# Altium schematic symbol library kmilo17pet-TI_LDO_400_7500.SchLib: 1409 symbols (part 16 of 60)
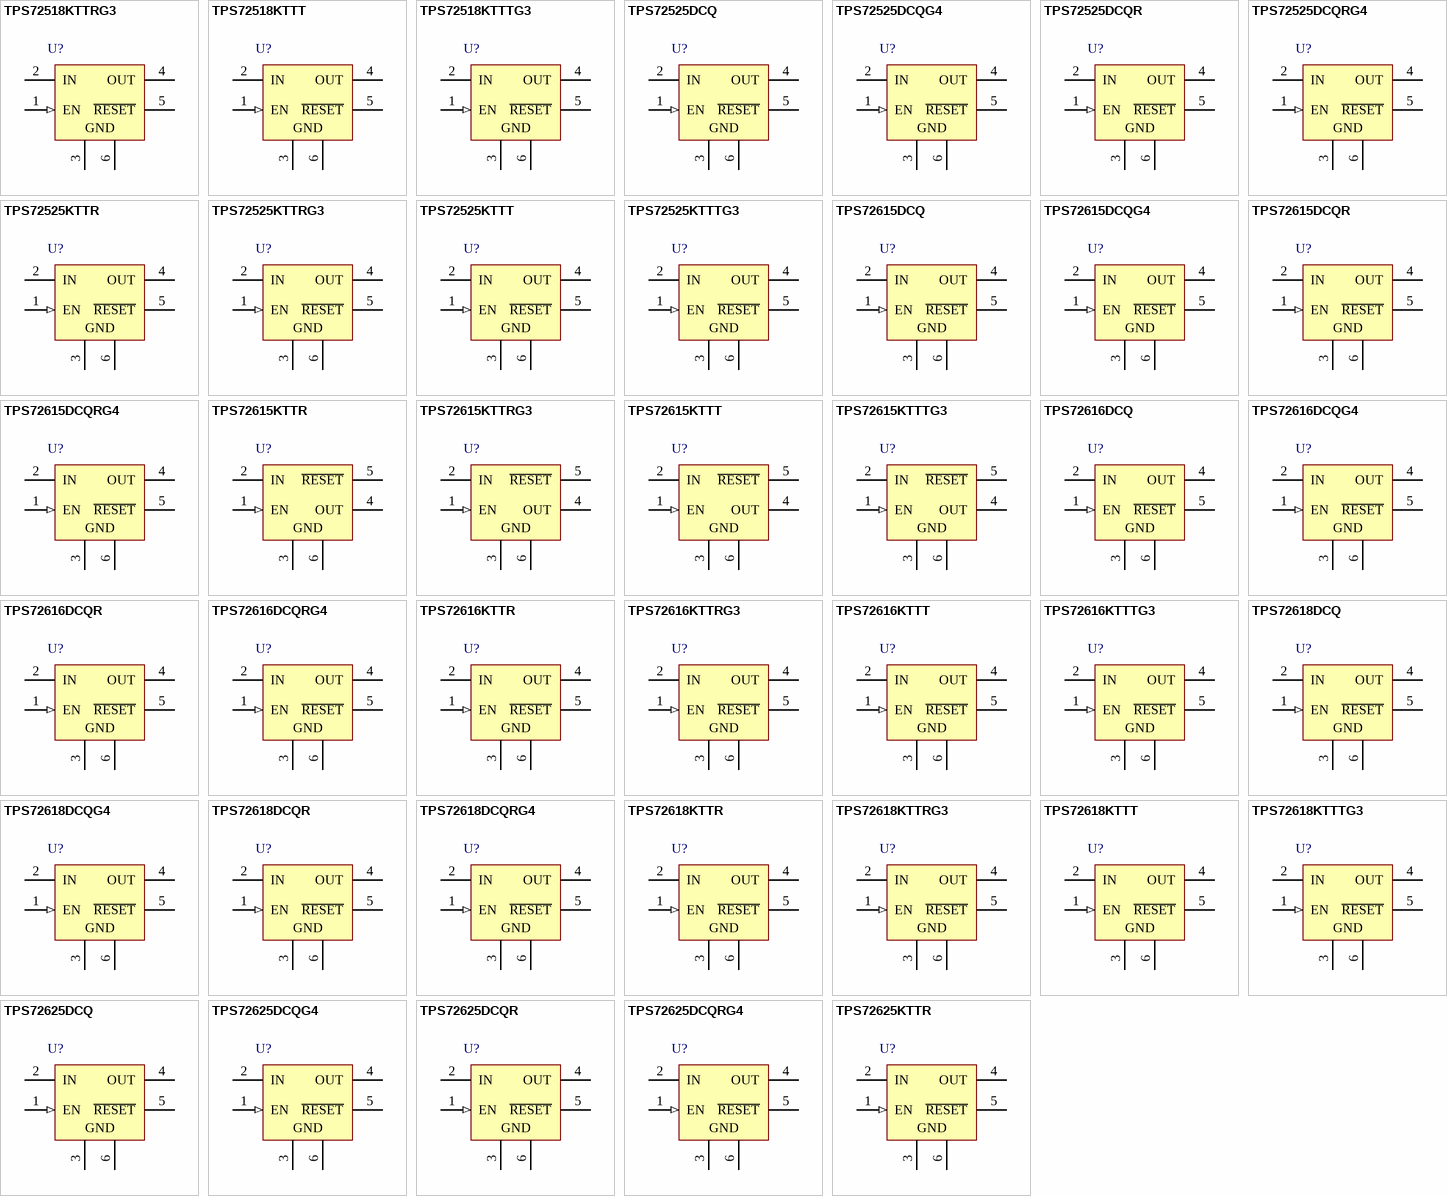
[diagram p65: symbols TPS72518KTTRG3 to TPS72625KTTR]

## TPS72615KTTRG3
designator U?
Single Output Any Cap LDO, 1 A, Fixed 1.5 V Output, 1.8 to 6 V Input, with Integrated SVS, 5-pin DDPAK (KTT), -40 to 125 degC, Green (RoHS & no Sb/Br); Manufacturer: Texas Instruments; PartNumber: TPS72615KTTRG3; Accuracy(%): 2; Fixed Output Options(V): 1.5; Iout(Max)(A): 1; Iq(Typ)(mA): 0.07; SubFamily: Single Channel LDO; Vdo(Typ)(mV): 200; Vin(Max)(V): 6; Vin(Min)(V): 1.8; DatasheetVersion: SLVS403H; PackageVersion: 4200577-3/F; PackageReference: KTT5; PackageDescription: 3-Pin Plastic Flange Mount, Body 10.16 x 10.34 mm, Pitch 1.7 mm; Supplier 1: Digi-Key; Supplier Part Number 1: TPS72615KTTRG3-ND; Supplier 2: Newark; Supplier Part Number 2: 73K9616; Supplier 3: Mouser; Supplier Part Number 3: 595-TPS72615KTTRG3; Eco-Plan: Green (RoHS & no Sb/Br); Vout Adj(Max)(V): 1.5; Vout Adj(Min)(V): 1.5; Mounting Technology: Surface Mount; Code_JEDEC: TO-263; ComponentLink1Description: Manufacturer URL; ComponentLink1URL: http://www.ti.com/; ComponentLink2Description: Datasheet; ComponentLink2URL: http://www.ti.com/general/docs/lit/getliterature.tsp?genericPartNumber=TPS72615&fileType=pdf; ComponentLink3Description: Package Specification; ComponentLink3URL: http://www.ti.com/litv/pdf/mpsf007e
footprint TI-KTT5_N (DPAK, 5-Leads, Body 10.16x8.925mm, Pitch 1.7mm, IPC Medium Density)
footprint TI-KTT5_L (DPAK, 5-Leads, Body 10.16x8.925mm, Pitch 1.7mm, IPC High Density)
footprint TI-KTT5_M (DPAK, 5-Leads, Body 10.16x8.925mm, Pitch 1.7mm, IPC Low Density)
pins: 1 EN (in) "Enable input", 2 IN (power) "Input supply voltage", 3 GND (power) "Ground", 4 OUT (power) "Regulated output voltage", 5 ~{RESET} (oc) "This terminal is the R\E\S\E\T\ output. When used with a pull-up resistor, this open-drain output provides the active low R\E\S\E\T\ signal when the regulator output voltage drops more than 5% below its nominal output (See Datasheet)", 6 GND (power) "Ground"

## TPS72615KTTT
designator U?
Single Output Any Cap LDO, 1 A, Fixed 1.5 V Output, 1.8 to 6 V Input, with Integrated SVS, 5-pin DDPAK (KTT), -40 to 125 degC, Green (RoHS & no Sb/Br); Manufacturer: Texas Instruments; PartNumber: TPS72615KTTT; Accuracy(%): 2; Fixed Output Options(V): 1.5; Iout(Max)(A): 1; Iq(Typ)(mA): 0.07; SubFamily: Single Channel LDO; Vdo(Typ)(mV): 200; Vin(Max)(V): 6; Vin(Min)(V): 1.8; DatasheetVersion: SLVS403H; PackageVersion: 4200577-3/F; PackageReference: KTT5; PackageDescription: 3-Pin Plastic Flange Mount, Body 10.16 x 10.34 mm, Pitch 1.7 mm; Supplier 1: Digi-Key; Supplier Part Number 1: 296-13751-2-ND; Supplier 2: Digi-Key; Supplier Part Number 2: 296-13751-1-ND; Supplier 3: Digi-Key; Supplier Part Number 3: 296-13751-6-ND; Supplier 4: Mouser; Supplier Part Number 4: 595-TPS72615KTTT; Eco-Plan: Green (RoHS & no Sb/Br); Vout Adj(Max)(V): 1.5; Vout Adj(Min)(V): 1.5; Mounting Technology: Surface Mount; Code_JEDEC: TO-263; ComponentLink1Description: Manufacturer URL; ComponentLink1URL: http://www.ti.com/; ComponentLink2Description: Datasheet; ComponentLink2URL: http://www.ti.com/general/docs/lit/getliterature.tsp?genericPartNumber=TPS72615&fileType=pdf; ComponentLink3Description: Package Specification; ComponentLink3URL: http://www.ti.com/litv/pdf/mpsf007e
footprint TI-KTT5_N (DPAK, 5-Leads, Body 10.16x8.925mm, Pitch 1.7mm, IPC Medium Density)
footprint TI-KTT5_L (DPAK, 5-Leads, Body 10.16x8.925mm, Pitch 1.7mm, IPC High Density)
footprint TI-KTT5_M (DPAK, 5-Leads, Body 10.16x8.925mm, Pitch 1.7mm, IPC Low Density)
pins: 1 EN (in) "Enable input", 2 IN (power) "Input supply voltage", 3 GND (power) "Ground", 4 OUT (power) "Regulated output voltage", 5 ~{RESET} (oc) "This terminal is the R\E\S\E\T\ output. When used with a pull-up resistor, this open-drain output provides the active low R\E\S\E\T\ signal when the regulator output voltage drops more than 5% below its nominal output (See Datasheet)", 6 GND (power) "Ground"

## TPS72615KTTTG3
designator U?
Single Output Any Cap LDO, 1 A, Fixed 1.5 V Output, 1.8 to 6 V Input, with Integrated SVS, 5-pin DDPAK (KTT), -40 to 125 degC, Green (RoHS & no Sb/Br); Manufacturer: Texas Instruments; PartNumber: TPS72615KTTTG3; Accuracy(%): 2; Fixed Output Options(V): 1.5; Iout(Max)(A): 1; Iq(Typ)(mA): 0.07; SubFamily: Single Channel LDO; Vdo(Typ)(mV): 200; Vin(Max)(V): 6; Vin(Min)(V): 1.8; DatasheetVersion: SLVS403H; PackageVersion: 4200577-3/F; PackageReference: KTT5; PackageDescription: 3-Pin Plastic Flange Mount, Body 10.16 x 10.34 mm, Pitch 1.7 mm; Supplier 1: Digi-Key; Supplier Part Number 1: TPS72615KTTTG3-ND; Supplier 2: Newark; Supplier Part Number 2: 28M7830; Supplier 3: Mouser; Supplier Part Number 3: 595-TPS72615KTTTG3; Eco-Plan: Green (RoHS & no Sb/Br); Vout Adj(Max)(V): 1.5; Vout Adj(Min)(V): 1.5; Mounting Technology: Surface Mount; Code_JEDEC: TO-263; ComponentLink1Description: Manufacturer URL; ComponentLink1URL: http://www.ti.com/; ComponentLink2Description: Datasheet; ComponentLink2URL: http://www.ti.com/general/docs/lit/getliterature.tsp?genericPartNumber=TPS72615&fileType=pdf; ComponentLink3Description: Package Specification; ComponentLink3URL: http://www.ti.com/litv/pdf/mpsf007e
footprint TI-KTT5_N (DPAK, 5-Leads, Body 10.16x8.925mm, Pitch 1.7mm, IPC Medium Density)
footprint TI-KTT5_L (DPAK, 5-Leads, Body 10.16x8.925mm, Pitch 1.7mm, IPC High Density)
footprint TI-KTT5_M (DPAK, 5-Leads, Body 10.16x8.925mm, Pitch 1.7mm, IPC Low Density)
pins: 1 EN (in) "Enable input", 2 IN (power) "Input supply voltage", 3 GND (power) "Ground", 4 OUT (power) "Regulated output voltage", 5 ~{RESET} (oc) "This terminal is the R\E\S\E\T\ output. When used with a pull-up resistor, this open-drain output provides the active low R\E\S\E\T\ signal when the regulator output voltage drops more than 5% below its nominal output (See Datasheet)", 6 GND (power) "Ground"

## TPS72616DCQ
designator U?
Single Output Any Cap LDO, 1 A, Fixed 1.6 V Output, 1.8 to 6 V Input, with Integrated SVS, 6-pin SOT-223 (DCQ), -40 to 125 degC, Green (RoHS & no Sb/Br); Manufacturer: Texas Instruments; PartNumber: TPS72616DCQ; Accuracy(%): 2; Fixed Output Options(V): 1.6; Iout(Max)(A): 1; Iq(Typ)(mA): 0.07; SubFamily: Single Channel LDO; Vdo(Typ)(mV): 200; Vin(Max)(V): 6; Vin(Min)(V): 1.8; DatasheetVersion: SLVS403H; PackageVersion: 4202109/D; PackageReference: DCQ6; PackageDescription: 6-Pin Plastic Small Outline, Body 3.5 x 6.5 mm, Pitch 1.27 mm; Supplier 1: Digi-Key; Supplier Part Number 1: TPS72616DCQ-ND; Supplier 2: Mouser; Supplier Part Number 2: 595-TPS72616DCQ; Eco-Plan: Green (RoHS & no Sb/Br); Vout Adj(Max)(V): 1.6; Vout Adj(Min)(V): 1.6; Mounting Technology: Surface Mount; ComponentLink1Description: Manufacturer URL; ComponentLink1URL: http://www.ti.com/; ComponentLink2Description: Datasheet; ComponentLink2URL: http://www.ti.com/general/docs/lit/getliterature.tsp?genericPartNumber=TPS72616&fileType=pdf; ComponentLink3Description: Package Specification; ComponentLink3URL: http://www.ti.com/litv/pdf/mpds098c
footprint TI-DCQ6_N (SOT223, 6-Leads, Body 6.5x3.5mm, Pitch 1.27mm, IPC Medium Density)
footprint TI-DCQ6_L (SOT223, 6-Leads, Body 6.5x3.5mm, Pitch 1.27mm, IPC High Density)
footprint TI-DCQ6_M (SOT223, 6-Leads, Body 6.5x3.5mm, Pitch 1.27mm, IPC Low Density)
pins: 1 EN (in) "Enable input", 2 IN (power) "Input supply voltage", 3 GND (power) "Ground", 4 OUT (power) "Regulated output voltage", 5 ~{RESET} (oc) "This terminal is the R\E\S\E\T\ output. When used with a pull-up resistor, this open-drain output provides the active low R\E\S\E\T\ signal when the regulator output voltage drops more than 5% below its nominal output (See Datasheet)", 6 GND (power) "Exposed Thermal Tab"

## TPS72616DCQG4
designator U?
Single Output Any Cap LDO, 1 A, Fixed 1.6 V Output, 1.8 to 6 V Input, with Integrated SVS, 6-pin SOT-223 (DCQ), -40 to 125 degC, Green (RoHS & no Sb/Br); Manufacturer: Texas Instruments; PartNumber: TPS72616DCQG4; Accuracy(%): 2; Fixed Output Options(V): 1.6; Iout(Max)(A): 1; Iq(Typ)(mA): 0.07; SubFamily: Single Channel LDO; Vdo(Typ)(mV): 200; Vin(Max)(V): 6; Vin(Min)(V): 1.8; DatasheetVersion: SLVS403H; PackageVersion: 4202109/D; PackageReference: DCQ6; PackageDescription: 6-Pin Plastic Small Outline, Body 3.5 x 6.5 mm, Pitch 1.27 mm; Supplier 1: Digi-Key; Supplier Part Number 1: TPS72616DCQG4-ND; Supplier 2: Newark; Supplier Part Number 2: 52M6161; Supplier 3: Mouser; Supplier Part Number 3: 595-TPS72616DCQG4; Eco-Plan: Green (RoHS & no Sb/Br); Vout Adj(Max)(V): 1.6; Vout Adj(Min)(V): 1.6; Mounting Technology: Surface Mount; ComponentLink1Description: Manufacturer URL; ComponentLink1URL: http://www.ti.com/; ComponentLink2Description: Datasheet; ComponentLink2URL: http://www.ti.com/general/docs/lit/getliterature.tsp?genericPartNumber=TPS72616&fileType=pdf; ComponentLink3Description: Package Specification; ComponentLink3URL: http://www.ti.com/litv/pdf/mpds098c
footprint TI-DCQ6_N (SOT223, 6-Leads, Body 6.5x3.5mm, Pitch 1.27mm, IPC Medium Density)
footprint TI-DCQ6_L (SOT223, 6-Leads, Body 6.5x3.5mm, Pitch 1.27mm, IPC High Density)
footprint TI-DCQ6_M (SOT223, 6-Leads, Body 6.5x3.5mm, Pitch 1.27mm, IPC Low Density)
pins: 1 EN (in) "Enable input", 2 IN (power) "Input supply voltage", 3 GND (power) "Ground", 4 OUT (power) "Regulated output voltage", 5 ~{RESET} (oc) "This terminal is the R\E\S\E\T\ output. When used with a pull-up resistor, this open-drain output provides the active low R\E\S\E\T\ signal when the regulator output voltage drops more than 5% below its nominal output (See Datasheet)", 6 GND (power) "Exposed Thermal Tab"

## TPS72616DCQR
designator U?
Single Output Any Cap LDO, 1 A, Fixed 1.6 V Output, 1.8 to 6 V Input, with Integrated SVS, 6-pin SOT-223 (DCQ), -40 to 125 degC, Green (RoHS & no Sb/Br); Manufacturer: Texas Instruments; PartNumber: TPS72616DCQR; Accuracy(%): 2; Fixed Output Options(V): 1.6; Iout(Max)(A): 1; Iq(Typ)(mA): 0.07; SubFamily: Single Channel LDO; Vdo(Typ)(mV): 200; Vin(Max)(V): 6; Vin(Min)(V): 1.8; DatasheetVersion: SLVS403H; PackageVersion: 4202109/D; PackageReference: DCQ6; PackageDescription: 6-Pin Plastic Small Outline, Body 3.5 x 6.5 mm, Pitch 1.27 mm; Supplier 1: Digi-Key; Supplier Part Number 1: 296-13705-2-ND; Supplier 2: Digi-Key; Supplier Part Number 2: 296-13705-1-ND; Supplier 3: Digi-Key; Supplier Part Number 3: 296-13705-6-ND; Supplier 4: Mouser; Supplier Part Number 4: 595-TPS72616DCQR; Eco-Plan: Green (RoHS & no Sb/Br); Vout Adj(Max)(V): 1.6; Vout Adj(Min)(V): 1.6; Mounting Technology: Surface Mount; ComponentLink1Description: Manufacturer URL; ComponentLink1URL: http://www.ti.com/; ComponentLink2Description: Datasheet; ComponentLink2URL: http://www.ti.com/general/docs/lit/getliterature.tsp?genericPartNumber=TPS72616&fileType=pdf; ComponentLink3Description: Package Specification; ComponentLink3URL: http://www.ti.com/litv/pdf/mpds098c
footprint TI-DCQ6_N (SOT223, 6-Leads, Body 6.5x3.5mm, Pitch 1.27mm, IPC Medium Density)
footprint TI-DCQ6_L (SOT223, 6-Leads, Body 6.5x3.5mm, Pitch 1.27mm, IPC High Density)
footprint TI-DCQ6_M (SOT223, 6-Leads, Body 6.5x3.5mm, Pitch 1.27mm, IPC Low Density)
pins: 1 EN (in) "Enable input", 2 IN (power) "Input supply voltage", 3 GND (power) "Ground", 4 OUT (power) "Regulated output voltage", 5 ~{RESET} (oc) "This terminal is the R\E\S\E\T\ output. When used with a pull-up resistor, this open-drain output provides the active low R\E\S\E\T\ signal when the regulator output voltage drops more than 5% below its nominal output (See Datasheet)", 6 GND (power) "Exposed Thermal Tab"

## TPS72616DCQRG4
designator U?
Single Output Any Cap LDO, 1 A, Fixed 1.6 V Output, 1.8 to 6 V Input, with Integrated SVS, 6-pin SOT-223 (DCQ), -40 to 125 degC, Green (RoHS & no Sb/Br); Manufacturer: Texas Instruments; PartNumber: TPS72616DCQRG4; Accuracy(%): 2; Fixed Output Options(V): 1.6; Iout(Max)(A): 1; Iq(Typ)(mA): 0.07; SubFamily: Single Channel LDO; Vdo(Typ)(mV): 200; Vin(Max)(V): 6; Vin(Min)(V): 1.8; DatasheetVersion: SLVS403H; PackageVersion: 4202109/D; PackageReference: DCQ6; PackageDescription: 6-Pin Plastic Small Outline, Body 3.5 x 6.5 mm, Pitch 1.27 mm; Supplier 1: Digi-Key; Supplier Part Number 1: TPS72616DCQRG4-ND; Supplier 2: Mouser; Supplier Part Number 2: 595-TPS72616DCQRG4; Eco-Plan: Green (RoHS & no Sb/Br); Vout Adj(Max)(V): 1.6; Vout Adj(Min)(V): 1.6; Mounting Technology: Surface Mount; ComponentLink1Description: Manufacturer URL; ComponentLink1URL: http://www.ti.com/; ComponentLink2Description: Datasheet; ComponentLink2URL: http://www.ti.com/general/docs/lit/getliterature.tsp?genericPartNumber=TPS72616&fileType=pdf; ComponentLink3Description: Package Specification; ComponentLink3URL: http://www.ti.com/litv/pdf/mpds098c
footprint TI-DCQ6_N (SOT223, 6-Leads, Body 6.5x3.5mm, Pitch 1.27mm, IPC Medium Density)
footprint TI-DCQ6_L (SOT223, 6-Leads, Body 6.5x3.5mm, Pitch 1.27mm, IPC High Density)
footprint TI-DCQ6_M (SOT223, 6-Leads, Body 6.5x3.5mm, Pitch 1.27mm, IPC Low Density)
pins: 1 EN (in) "Enable input", 2 IN (power) "Input supply voltage", 3 GND (power) "Ground", 4 OUT (power) "Regulated output voltage", 5 ~{RESET} (oc) "This terminal is the R\E\S\E\T\ output. When used with a pull-up resistor, this open-drain output provides the active low R\E\S\E\T\ signal when the regulator output voltage drops more than 5% below its nominal output (See Datasheet)", 6 GND (power) "Exposed Thermal Tab"

## TPS72616KTTR
designator U?
Single Output Any Cap LDO, 1 A, Fixed 1.6 V Output, 1.8 to 6 V Input, with Integrated SVS, 5-pin DDPAK (KTT), -40 to 125 degC, Green (RoHS & no Sb/Br); Manufacturer: Texas Instruments; PartNumber: TPS72616KTTR; Accuracy(%): 2; Fixed Output Options(V): 1.6; Iout(Max)(A): 1; Iq(Typ)(mA): 0.07; SubFamily: Single Channel LDO; Vdo(Typ)(mV): 200; Vin(Max)(V): 6; Vin(Min)(V): 1.8; DatasheetVersion: SLVS403H; PackageVersion: 4200577-3/F; PackageReference: KTT5; PackageDescription: 3-Pin Plastic Flange Mount, Body 10.16 x 10.34 mm, Pitch 1.7 mm; Supplier 1: Digi-Key; Supplier Part Number 1: TPS72616KTTR-ND; Supplier 2: Mouser; Supplier Part Number 2: 595-TPS72616KTTR; Eco-Plan: Green (RoHS & no Sb/Br); Vout Adj(Max)(V): 1.6; Vout Adj(Min)(V): 1.6; Mounting Technology: Surface Mount; Code_JEDEC: TO-263; ComponentLink1Description: Manufacturer URL; ComponentLink1URL: http://www.ti.com/; ComponentLink2Description: Datasheet; ComponentLink2URL: http://www.ti.com/general/docs/lit/getliterature.tsp?genericPartNumber=TPS72616&fileType=pdf; ComponentLink3Description: Package Specification; ComponentLink3URL: http://www.ti.com/litv/pdf/mpsf007e
footprint TI-KTT5_N (DPAK, 5-Leads, Body 10.16x8.925mm, Pitch 1.7mm, IPC Medium Density)
footprint TI-KTT5_L (DPAK, 5-Leads, Body 10.16x8.925mm, Pitch 1.7mm, IPC High Density)
footprint TI-KTT5_M (DPAK, 5-Leads, Body 10.16x8.925mm, Pitch 1.7mm, IPC Low Density)
pins: 1 EN (in) "Enable input", 2 IN (power) "Input supply voltage", 3 GND (power) "Ground", 4 OUT (power) "Regulated output voltage", 5 ~{RESET} (oc) "This terminal is the R\E\S\E\T\ output. When used with a pull-up resistor, this open-drain output provides the active low R\E\S\E\T\ signal when the regulator output voltage drops more than 5% below its nominal output (See Datasheet)", 6 GND (power) "Exposed Thermal Tab"

## TPS72616KTTRG3
designator U?
Single Output Any Cap LDO, 1 A, Fixed 1.6 V Output, 1.8 to 6 V Input, with Integrated SVS, 5-pin DDPAK (KTT), -40 to 125 degC, Green (RoHS & no Sb/Br); Manufacturer: Texas Instruments; PartNumber: TPS72616KTTRG3; Accuracy(%): 2; Fixed Output Options(V): 1.6; Iout(Max)(A): 1; Iq(Typ)(mA): 0.07; SubFamily: Single Channel LDO; Vdo(Typ)(mV): 200; Vin(Max)(V): 6; Vin(Min)(V): 1.8; DatasheetVersion: SLVS403H; PackageVersion: 4200577-3/F; PackageReference: KTT5; PackageDescription: 3-Pin Plastic Flange Mount, Body 10.16 x 10.34 mm, Pitch 1.7 mm; Supplier 1: Digi-Key; Supplier Part Number 1: TPS72616KTTRG3-ND; Supplier 2: Mouser; Supplier Part Number 2: 595-TPS72616KTTRG3; Eco-Plan: Green (RoHS & no Sb/Br); Vout Adj(Max)(V): 1.6; Vout Adj(Min)(V): 1.6; Mounting Technology: Surface Mount; Code_JEDEC: TO-263; ComponentLink1Description: Manufacturer URL; ComponentLink1URL: http://www.ti.com/; ComponentLink2Description: Datasheet; ComponentLink2URL: http://www.ti.com/general/docs/lit/getliterature.tsp?genericPartNumber=TPS72616&fileType=pdf; ComponentLink3Description: Package Specification; ComponentLink3URL: http://www.ti.com/litv/pdf/mpsf007e
footprint TI-KTT5_N (DPAK, 5-Leads, Body 10.16x8.925mm, Pitch 1.7mm, IPC Medium Density)
footprint TI-KTT5_L (DPAK, 5-Leads, Body 10.16x8.925mm, Pitch 1.7mm, IPC High Density)
footprint TI-KTT5_M (DPAK, 5-Leads, Body 10.16x8.925mm, Pitch 1.7mm, IPC Low Density)
pins: 1 EN (in) "Enable input", 2 IN (power) "Input supply voltage", 3 GND (power) "Ground", 4 OUT (power) "Regulated output voltage", 5 ~{RESET} (oc) "This terminal is the R\E\S\E\T\ output. When used with a pull-up resistor, this open-drain output provides the active low R\E\S\E\T\ signal when the regulator output voltage drops more than 5% below its nominal output (See Datasheet)", 6 GND (power) "Exposed Thermal Tab"

## TPS72616KTTT
designator U?
Single Output Any Cap LDO, 1 A, Fixed 1.6 V Output, 1.8 to 6 V Input, with Integrated SVS, 5-pin DDPAK (KTT), -40 to 125 degC, Green (RoHS & no Sb/Br); Manufacturer: Texas Instruments; PartNumber: TPS72616KTTT; Accuracy(%): 2; Fixed Output Options(V): 1.6; Iout(Max)(A): 1; Iq(Typ)(mA): 0.07; SubFamily: Single Channel LDO; Vdo(Typ)(mV): 200; Vin(Max)(V): 6; Vin(Min)(V): 1.8; DatasheetVersion: SLVS403H; PackageVersion: 4200577-3/F; PackageReference: KTT5; PackageDescription: 3-Pin Plastic Flange Mount, Body 10.16 x 10.34 mm, Pitch 1.7 mm; Supplier 1: Digi-Key; Supplier Part Number 1: 296-13752-2-ND; Supplier 2: Digi-Key; Supplier Part Number 2: 296-13752-1-ND; Supplier 3: Digi-Key; Supplier Part Number 3: 296-13752-6-ND; Supplier 4: Mouser; Supplier Part Number 4: 595-TPS72616KTTT; Eco-Plan: Green (RoHS & no Sb/Br); Vout Adj(Max)(V): 1.6; Vout Adj(Min)(V): 1.6; Mounting Technology: Surface Mount; Code_JEDEC: TO-263; ComponentLink1Description: Manufacturer URL; ComponentLink1URL: http://www.ti.com/; ComponentLink2Description: Datasheet; ComponentLink2URL: http://www.ti.com/general/docs/lit/getliterature.tsp?genericPartNumber=TPS72616&fileType=pdf; ComponentLink3Description: Package Specification; ComponentLink3URL: http://www.ti.com/litv/pdf/mpsf007e
footprint TI-KTT5_N (DPAK, 5-Leads, Body 10.16x8.925mm, Pitch 1.7mm, IPC Medium Density)
footprint TI-KTT5_L (DPAK, 5-Leads, Body 10.16x8.925mm, Pitch 1.7mm, IPC High Density)
footprint TI-KTT5_M (DPAK, 5-Leads, Body 10.16x8.925mm, Pitch 1.7mm, IPC Low Density)
pins: 1 EN (in) "Enable input", 2 IN (power) "Input supply voltage", 3 GND (power) "Ground", 4 OUT (power) "Regulated output voltage", 5 ~{RESET} (oc) "This terminal is the R\E\S\E\T\ output. When used with a pull-up resistor, this open-drain output provides the active low R\E\S\E\T\ signal when the regulator output voltage drops more than 5% below its nominal output (See Datasheet)", 6 GND (power) "Exposed Thermal Tab"

## TPS72616KTTTG3
designator U?
Single Output Any Cap LDO, 1 A, Fixed 1.6 V Output, 1.8 to 6 V Input, with Integrated SVS, 5-pin DDPAK (KTT), -40 to 125 degC, Green (RoHS & no Sb/Br); Manufacturer: Texas Instruments; PartNumber: TPS72616KTTTG3; Accuracy(%): 2; Fixed Output Options(V): 1.6; Iout(Max)(A): 1; Iq(Typ)(mA): 0.07; SubFamily: Single Channel LDO; Vdo(Typ)(mV): 200; Vin(Max)(V): 6; Vin(Min)(V): 1.8; DatasheetVersion: SLVS403H; PackageVersion: 4200577-3/F; PackageReference: KTT5; PackageDescription: 3-Pin Plastic Flange Mount, Body 10.16 x 10.34 mm, Pitch 1.7 mm; Supplier 1: Digi-Key; Supplier Part Number 1: TPS72616KTTTG3-ND; Supplier 2: Mouser; Supplier Part Number 2: 595-TPS72616KTTTG3; Eco-Plan: Green (RoHS & no Sb/Br); Vout Adj(Max)(V): 1.6; Vout Adj(Min)(V): 1.6; Mounting Technology: Surface Mount; Code_JEDEC: TO-263; ComponentLink1Description: Manufacturer URL; ComponentLink1URL: http://www.ti.com/; ComponentLink2Description: Datasheet; ComponentLink2URL: http://www.ti.com/general/docs/lit/getliterature.tsp?genericPartNumber=TPS72616&fileType=pdf; ComponentLink3Description: Package Specification; ComponentLink3URL: http://www.ti.com/litv/pdf/mpsf007e
footprint TI-KTT5_N (DPAK, 5-Leads, Body 10.16x8.925mm, Pitch 1.7mm, IPC Medium Density)
footprint TI-KTT5_L (DPAK, 5-Leads, Body 10.16x8.925mm, Pitch 1.7mm, IPC High Density)
footprint TI-KTT5_M (DPAK, 5-Leads, Body 10.16x8.925mm, Pitch 1.7mm, IPC Low Density)
pins: 1 EN (in) "Enable input", 2 IN (power) "Input supply voltage", 3 GND (power) "Ground", 4 OUT (power) "Regulated output voltage", 5 ~{RESET} (oc) "This terminal is the R\E\S\E\T\ output. When used with a pull-up resistor, this open-drain output provides the active low R\E\S\E\T\ signal when the regulator output voltage drops more than 5% below its nominal output (See Datasheet)", 6 GND (power) "Exposed Thermal Tab"

## TPS72618DCQ
designator U?
Single Output Any Cap LDO, 1 A, Fixed 1.8 V Output, 1.8 to 6 V Input, with Integrated SVS, 6-pin SOT-223 (DCQ), -40 to 125 degC, Green (RoHS & no Sb/Br); Manufacturer: Texas Instruments; PartNumber: TPS72618DCQ; Accuracy(%): 2; Fixed Output Options(V): 1.8; Iout(Max)(A): 1; Iq(Typ)(mA): 0.07; SubFamily: Single Channel LDO; Vdo(Typ)(mV): 210; Vin(Max)(V): 6; DatasheetVersion: SLVS403H; PackageVersion: 4202109/D; PackageReference: DCQ6; PackageDescription: 6-Pin Plastic Small Outline, Body 3.5 x 6.5 mm, Pitch 1.27 mm; Supplier 1: Digi-Key; Supplier Part Number 1: 296-34640-5-ND; Supplier 2: Newark; Supplier Part Number 2: 77C0860; Supplier 3: Mouser; Supplier Part Number 3: 595-TPS72618DCQ; Eco-Plan: Green (RoHS & no Sb/Br); Vin(Min)(V): 1.8; Vout Adj(Max)(V): 1.8; Vout Adj(Min)(V): 1.8; Mounting Technology: Surface Mount; ComponentLink1Description: Manufacturer URL; ComponentLink1URL: http://www.ti.com/; ComponentLink2Description: Datasheet; ComponentLink2URL: http://www.ti.com/general/docs/lit/getliterature.tsp?genericPartNumber=TPS72618&fileType=pdf; ComponentLink3Description: Package Specification; ComponentLink3URL: http://www.ti.com/litv/pdf/mpds098c
footprint TI-DCQ6_N (SOT223, 6-Leads, Body 6.5x3.5mm, Pitch 1.27mm, IPC Medium Density)
footprint TI-DCQ6_L (SOT223, 6-Leads, Body 6.5x3.5mm, Pitch 1.27mm, IPC High Density)
footprint TI-DCQ6_M (SOT223, 6-Leads, Body 6.5x3.5mm, Pitch 1.27mm, IPC Low Density)
pins: 1 EN (in) "Enable input", 2 IN (power) "Input supply voltage", 3 GND (power) "Ground", 4 OUT (power) "Regulated output voltage", 5 ~{RESET} (oc) "This terminal is the R\E\S\E\T\ output. When used with a pull-up resistor, this open-drain output provides the active low R\E\S\E\T\ signal when the regulator output voltage drops more than 5% below its nominal output (See Datasheet)", 6 GND (power) "Exposed Thermal Tab"

## TPS72618DCQG4
designator U?
Single Output Any Cap LDO, 1 A, Fixed 1.8 V Output, 1.8 to 6 V Input, with Integrated SVS, 6-pin SOT-223 (DCQ), -40 to 125 degC, Green (RoHS & no Sb/Br); Manufacturer: Texas Instruments; PartNumber: TPS72618DCQG4; Accuracy(%): 2; Fixed Output Options(V): 1.8; Iout(Max)(A): 1; Iq(Typ)(mA): 0.07; SubFamily: Single Channel LDO; Vdo(Typ)(mV): 210; Vin(Max)(V): 6; DatasheetVersion: SLVS403H; PackageVersion: 4202109/D; PackageReference: DCQ6; PackageDescription: 6-Pin Plastic Small Outline, Body 3.5 x 6.5 mm, Pitch 1.27 mm; Supplier 1: Digi-Key; Supplier Part Number 1: TPS72618DCQG4-ND; Supplier 2: Mouser; Supplier Part Number 2: 595-TPS72618DCQG4; Eco-Plan: Green (RoHS & no Sb/Br); Vin(Min)(V): 1.8; Vout Adj(Max)(V): 1.8; Vout Adj(Min)(V): 1.8; Mounting Technology: Surface Mount; ComponentLink1Description: Manufacturer URL; ComponentLink1URL: http://www.ti.com/; ComponentLink2Description: Datasheet; ComponentLink2URL: http://www.ti.com/general/docs/lit/getliterature.tsp?genericPartNumber=TPS72618&fileType=pdf; ComponentLink3Description: Package Specification; ComponentLink3URL: http://www.ti.com/litv/pdf/mpds098c
footprint TI-DCQ6_N (SOT223, 6-Leads, Body 6.5x3.5mm, Pitch 1.27mm, IPC Medium Density)
footprint TI-DCQ6_L (SOT223, 6-Leads, Body 6.5x3.5mm, Pitch 1.27mm, IPC High Density)
footprint TI-DCQ6_M (SOT223, 6-Leads, Body 6.5x3.5mm, Pitch 1.27mm, IPC Low Density)
pins: 1 EN (in) "Enable input", 2 IN (power) "Input supply voltage", 3 GND (power) "Ground", 4 OUT (power) "Regulated output voltage", 5 ~{RESET} (oc) "This terminal is the R\E\S\E\T\ output. When used with a pull-up resistor, this open-drain output provides the active low R\E\S\E\T\ signal when the regulator output voltage drops more than 5% below its nominal output (See Datasheet)", 6 GND (power) "Exposed Thermal Tab"

## TPS72618DCQR
designator U?
Single Output Any Cap LDO, 1 A, Fixed 1.8 V Output, 1.8 to 6 V Input, with Integrated SVS, 6-pin SOT-223 (DCQ), -40 to 125 degC, Green (RoHS & no Sb/Br); Manufacturer: Texas Instruments; PartNumber: TPS72618DCQR; Accuracy(%): 2; Fixed Output Options(V): 1.8; Iout(Max)(A): 1; Iq(Typ)(mA): 0.07; SubFamily: Single Channel LDO; Vdo(Typ)(mV): 210; Vin(Max)(V): 6; DatasheetVersion: SLVS403H; PackageVersion: 4202109/D; PackageReference: DCQ6; PackageDescription: 6-Pin Plastic Small Outline, Body 3.5 x 6.5 mm, Pitch 1.27 mm; Supplier 1: Digi-Key; Supplier Part Number 1: 296-12959-2-ND; Supplier 2: Digi-Key; Supplier Part Number 2: 296-12959-1-ND; Supplier 3: Digi-Key; Supplier Part Number 3: 296-12959-6-ND; Supplier 4: Mouser; Supplier Part Number 4: 595-TPS72618DCQR; Eco-Plan: Green (RoHS & no Sb/Br); Vin(Min)(V): 1.8; Vout Adj(Max)(V): 1.8; Vout Adj(Min)(V): 1.8; Mounting Technology: Surface Mount; ComponentLink1Description: Manufacturer URL; ComponentLink1URL: http://www.ti.com/; ComponentLink2Description: Datasheet; ComponentLink2URL: http://www.ti.com/general/docs/lit/getliterature.tsp?genericPartNumber=TPS72618&fileType=pdf; ComponentLink3Description: Package Specification; ComponentLink3URL: http://www.ti.com/litv/pdf/mpds098c
footprint TI-DCQ6_N (SOT223, 6-Leads, Body 6.5x3.5mm, Pitch 1.27mm, IPC Medium Density)
footprint TI-DCQ6_L (SOT223, 6-Leads, Body 6.5x3.5mm, Pitch 1.27mm, IPC High Density)
footprint TI-DCQ6_M (SOT223, 6-Leads, Body 6.5x3.5mm, Pitch 1.27mm, IPC Low Density)
pins: 1 EN (in) "Enable input", 2 IN (power) "Input supply voltage", 3 GND (power) "Ground", 4 OUT (power) "Regulated output voltage", 5 ~{RESET} (oc) "This terminal is the R\E\S\E\T\ output. When used with a pull-up resistor, this open-drain output provides the active low R\E\S\E\T\ signal when the regulator output voltage drops more than 5% below its nominal output (See Datasheet)", 6 GND (power) "Exposed Thermal Tab"

## TPS72618DCQRG4
designator U?
Single Output Any Cap LDO, 1 A, Fixed 1.8 V Output, 1.8 to 6 V Input, with Integrated SVS, 6-pin SOT-223 (DCQ), -40 to 125 degC, Green (RoHS & no Sb/Br); Manufacturer: Texas Instruments; PartNumber: TPS72618DCQRG4; Accuracy(%): 2; Fixed Output Options(V): 1.8; Iout(Max)(A): 1; Iq(Typ)(mA): 0.07; SubFamily: Single Channel LDO; Vdo(Typ)(mV): 210; Vin(Max)(V): 6; DatasheetVersion: SLVS403H; PackageVersion: 4202109/D; PackageReference: DCQ6; PackageDescription: 6-Pin Plastic Small Outline, Body 3.5 x 6.5 mm, Pitch 1.27 mm; Supplier 1: Digi-Key; Supplier Part Number 1: TPS72618DCQRG4-ND; Supplier 2: Mouser; Supplier Part Number 2: 595-TPS72618DCQRG4; Eco-Plan: Green (RoHS & no Sb/Br); Vin(Min)(V): 1.8; Vout Adj(Max)(V): 1.8; Vout Adj(Min)(V): 1.8; Mounting Technology: Surface Mount; ComponentLink1Description: Manufacturer URL; ComponentLink1URL: http://www.ti.com/; ComponentLink2Description: Datasheet; ComponentLink2URL: http://www.ti.com/general/docs/lit/getliterature.tsp?genericPartNumber=TPS72618&fileType=pdf; ComponentLink3Description: Package Specification; ComponentLink3URL: http://www.ti.com/litv/pdf/mpds098c
footprint TI-DCQ6_N (SOT223, 6-Leads, Body 6.5x3.5mm, Pitch 1.27mm, IPC Medium Density)
footprint TI-DCQ6_L (SOT223, 6-Leads, Body 6.5x3.5mm, Pitch 1.27mm, IPC High Density)
footprint TI-DCQ6_M (SOT223, 6-Leads, Body 6.5x3.5mm, Pitch 1.27mm, IPC Low Density)
pins: 1 EN (in) "Enable input", 2 IN (power) "Input supply voltage", 3 GND (power) "Ground", 4 OUT (power) "Regulated output voltage", 5 ~{RESET} (oc) "This terminal is the R\E\S\E\T\ output. When used with a pull-up resistor, this open-drain output provides the active low R\E\S\E\T\ signal when the regulator output voltage drops more than 5% below its nominal output (See Datasheet)", 6 GND (power) "Exposed Thermal Tab"

## TPS72618KTTR
designator U?
Single Output Any Cap LDO, 1 A, Fixed 1.8 V Output, 1.8 to 6 V Input, with Integrated SVS, 5-pin DDPAK (KTT), -40 to 125 degC, Green (RoHS & no Sb/Br); Manufacturer: Texas Instruments; PartNumber: TPS72618KTTR; Accuracy(%): 2; Fixed Output Options(V): 1.8; Iout(Max)(A): 1; Iq(Typ)(mA): 0.07; SubFamily: Single Channel LDO; Vdo(Typ)(mV): 210; Vin(Max)(V): 6; DatasheetVersion: SLVS403H; PackageVersion: 4200577-3/F; PackageReference: KTT5; PackageDescription: 3-Pin Plastic Flange Mount, Body 10.16 x 10.34 mm, Pitch 1.7 mm; Supplier 1: Digi-Key; Supplier Part Number 1: TPS72618KTTR-ND; Supplier 2: Mouser; Supplier Part Number 2: 595-TPS72618KTTR; Eco-Plan: Green (RoHS & no Sb/Br); Vin(Min)(V): 1.8; Vout Adj(Max)(V): 1.8; Vout Adj(Min)(V): 1.8; Mounting Technology: Surface Mount; Code_JEDEC: TO-263; ComponentLink1Description: Manufacturer URL; ComponentLink1URL: http://www.ti.com/; ComponentLink2Description: Datasheet; ComponentLink2URL: http://www.ti.com/general/docs/lit/getliterature.tsp?genericPartNumber=TPS72618&fileType=pdf; ComponentLink3Description: Package Specification; ComponentLink3URL: http://www.ti.com/litv/pdf/mpsf007e
footprint TI-KTT5_N (DPAK, 5-Leads, Body 10.16x8.925mm, Pitch 1.7mm, IPC Medium Density)
footprint TI-KTT5_L (DPAK, 5-Leads, Body 10.16x8.925mm, Pitch 1.7mm, IPC High Density)
footprint TI-KTT5_M (DPAK, 5-Leads, Body 10.16x8.925mm, Pitch 1.7mm, IPC Low Density)
pins: 1 EN (in) "Enable input", 2 IN (power) "Input supply voltage", 3 GND (power) "Ground", 4 OUT (power) "Regulated output voltage", 5 ~{RESET} (oc) "This terminal is the R\E\S\E\T\ output. When used with a pull-up resistor, this open-drain output provides the active low R\E\S\E\T\ signal when the regulator output voltage drops more than 5% below its nominal output (See Datasheet)", 6 GND (power) "Exposed Thermal Tab"

## TPS72618KTTRG3
designator U?
Single Output Any Cap LDO, 1 A, Fixed 1.8 V Output, 1.8 to 6 V Input, with Integrated SVS, 5-pin DDPAK (KTT), -40 to 125 degC, Green (RoHS & no Sb/Br); Manufacturer: Texas Instruments; PartNumber: TPS72618KTTRG3; Accuracy(%): 2; Fixed Output Options(V): 1.8; Iout(Max)(A): 1; Iq(Typ)(mA): 0.07; SubFamily: Single Channel LDO; Vdo(Typ)(mV): 210; Vin(Max)(V): 6; DatasheetVersion: SLVS403H; PackageVersion: 4200577-3/F; PackageReference: KTT5; PackageDescription: 3-Pin Plastic Flange Mount, Body 10.16 x 10.34 mm, Pitch 1.7 mm; Supplier 1: Digi-Key; Supplier Part Number 1: TPS72618KTTRG3-ND; Supplier 2: Mouser; Supplier Part Number 2: 595-TPS72618KTTRG3; Eco-Plan: Green (RoHS & no Sb/Br); Vin(Min)(V): 1.8; Vout Adj(Max)(V): 1.8; Vout Adj(Min)(V): 1.8; Mounting Technology: Surface Mount; Code_JEDEC: TO-263; ComponentLink1Description: Manufacturer URL; ComponentLink1URL: http://www.ti.com/; ComponentLink2Description: Datasheet; ComponentLink2URL: http://www.ti.com/general/docs/lit/getliterature.tsp?genericPartNumber=TPS72618&fileType=pdf; ComponentLink3Description: Package Specification; ComponentLink3URL: http://www.ti.com/litv/pdf/mpsf007e
footprint TI-KTT5_N (DPAK, 5-Leads, Body 10.16x8.925mm, Pitch 1.7mm, IPC Medium Density)
footprint TI-KTT5_L (DPAK, 5-Leads, Body 10.16x8.925mm, Pitch 1.7mm, IPC High Density)
footprint TI-KTT5_M (DPAK, 5-Leads, Body 10.16x8.925mm, Pitch 1.7mm, IPC Low Density)
pins: 1 EN (in) "Enable input", 2 IN (power) "Input supply voltage", 3 GND (power) "Ground", 4 OUT (power) "Regulated output voltage", 5 ~{RESET} (oc) "This terminal is the R\E\S\E\T\ output. When used with a pull-up resistor, this open-drain output provides the active low R\E\S\E\T\ signal when the regulator output voltage drops more than 5% below its nominal output (See Datasheet)", 6 GND (power) "Exposed Thermal Tab"

## TPS72618KTTT
designator U?
Single Output Any Cap LDO, 1 A, Fixed 1.8 V Output, 1.8 to 6 V Input, with Integrated SVS, 5-pin DDPAK (KTT), -40 to 125 degC, Green (RoHS & no Sb/Br); Manufacturer: Texas Instruments; PartNumber: TPS72618KTTT; Accuracy(%): 2; Fixed Output Options(V): 1.8; Iout(Max)(A): 1; Iq(Typ)(mA): 0.07; SubFamily: Single Channel LDO; Vdo(Typ)(mV): 210; Vin(Max)(V): 6; DatasheetVersion: SLVS403H; PackageVersion: 4200577-3/F; PackageReference: KTT5; PackageDescription: 3-Pin Plastic Flange Mount, Body 10.16 x 10.34 mm, Pitch 1.7 mm; Supplier 1: Digi-Key; Supplier Part Number 1: 296-13753-2-ND; Supplier 2: Digi-Key; Supplier Part Number 2: 296-13753-1-ND; Supplier 3: Digi-Key; Supplier Part Number 3: 296-13753-6-ND; Supplier 4: Mouser; Supplier Part Number 4: 595-TPS72618KTTT; Eco-Plan: Green (RoHS & no Sb/Br); Vin(Min)(V): 1.8; Vout Adj(Max)(V): 1.8; Vout Adj(Min)(V): 1.8; Mounting Technology: Surface Mount; Code_JEDEC: TO-263; ComponentLink1Description: Manufacturer URL; ComponentLink1URL: http://www.ti.com/; ComponentLink2Description: Datasheet; ComponentLink2URL: http://www.ti.com/general/docs/lit/getliterature.tsp?genericPartNumber=TPS72618&fileType=pdf; ComponentLink3Description: Package Specification; ComponentLink3URL: http://www.ti.com/litv/pdf/mpsf007e
footprint TI-KTT5_N (DPAK, 5-Leads, Body 10.16x8.925mm, Pitch 1.7mm, IPC Medium Density)
footprint TI-KTT5_L (DPAK, 5-Leads, Body 10.16x8.925mm, Pitch 1.7mm, IPC High Density)
footprint TI-KTT5_M (DPAK, 5-Leads, Body 10.16x8.925mm, Pitch 1.7mm, IPC Low Density)
pins: 1 EN (in) "Enable input", 2 IN (power) "Input supply voltage", 3 GND (power) "Ground", 4 OUT (power) "Regulated output voltage", 5 ~{RESET} (oc) "This terminal is the R\E\S\E\T\ output. When used with a pull-up resistor, this open-drain output provides the active low R\E\S\E\T\ signal when the regulator output voltage drops more than 5% below its nominal output (See Datasheet)", 6 GND (power) "Exposed Thermal Tab"

## TPS72618KTTTG3
designator U?
Single Output Any Cap LDO, 1 A, Fixed 1.8 V Output, 1.8 to 6 V Input, with Integrated SVS, 5-pin DDPAK (KTT), -40 to 125 degC, Green (RoHS & no Sb/Br); Manufacturer: Texas Instruments; PartNumber: TPS72618KTTTG3; Accuracy(%): 2; Fixed Output Options(V): 1.8; Iout(Max)(A): 1; Iq(Typ)(mA): 0.07; SubFamily: Single Channel LDO; Vdo(Typ)(mV): 210; Vin(Max)(V): 6; DatasheetVersion: SLVS403H; PackageVersion: 4200577-3/F; PackageReference: KTT5; PackageDescription: 3-Pin Plastic Flange Mount, Body 10.16 x 10.34 mm, Pitch 1.7 mm; Supplier 1: Digi-Key; Supplier Part Number 1: TPS72618KTTTG3-ND; Supplier 2: Mouser; Supplier Part Number 2: 595-TPS72618KTTTG3; Eco-Plan: Green (RoHS & no Sb/Br); Vin(Min)(V): 1.8; Vout Adj(Max)(V): 1.8; Vout Adj(Min)(V): 1.8; Mounting Technology: Surface Mount; Code_JEDEC: TO-263; ComponentLink1Description: Manufacturer URL; ComponentLink1URL: http://www.ti.com/; ComponentLink2Description: Datasheet; ComponentLink2URL: http://www.ti.com/general/docs/lit/getliterature.tsp?genericPartNumber=TPS72618&fileType=pdf; ComponentLink3Description: Package Specification; ComponentLink3URL: http://www.ti.com/litv/pdf/mpsf007e
footprint TI-KTT5_N (DPAK, 5-Leads, Body 10.16x8.925mm, Pitch 1.7mm, IPC Medium Density)
footprint TI-KTT5_L (DPAK, 5-Leads, Body 10.16x8.925mm, Pitch 1.7mm, IPC High Density)
footprint TI-KTT5_M (DPAK, 5-Leads, Body 10.16x8.925mm, Pitch 1.7mm, IPC Low Density)
pins: 1 EN (in) "Enable input", 2 IN (power) "Input supply voltage", 3 GND (power) "Ground", 4 OUT (power) "Regulated output voltage", 5 ~{RESET} (oc) "This terminal is the R\E\S\E\T\ output. When used with a pull-up resistor, this open-drain output provides the active low R\E\S\E\T\ signal when the regulator output voltage drops more than 5% below its nominal output (See Datasheet)", 6 GND (power) "Exposed Thermal Tab"

## TPS72625DCQ
designator U?
Single Output Any Cap LDO, 1 A, Fixed 2.5 V Output, 1.8 to 6 V Input, with Integrated SVS, 6-pin SOT-223 (DCQ), -40 to 125 degC, Green (RoHS & no Sb/Br); Manufacturer: Texas Instruments; PartNumber: TPS72625DCQ; Accuracy(%): 2; Fixed Output Options(V): 2.5; Iout(Max)(A): 1; Iq(Typ)(mA): 0.07; SubFamily: Single Channel LDO; Vdo(Typ)(mV): 170; Vin(Max)(V): 6; Vin(Min)(V): 1.8; DatasheetVersion: SLVS403H; PackageVersion: 4202109/D; PackageReference: DCQ6; PackageDescription: 6-Pin Plastic Small Outline, Body 3.5 x 6.5 mm, Pitch 1.27 mm; Supplier 1: Digi-Key; Supplier Part Number 1: 296-34641-5-ND; Supplier 2: Newark; Supplier Part Number 2: 77C0862; Supplier 3: Mouser; Supplier Part Number 3: 595-TPS72625DCQ; Eco-Plan: Green (RoHS & no Sb/Br); Vout Adj(Max)(V): 2.5; Vout Adj(Min)(V): 2.5; Mounting Technology: Surface Mount; ComponentLink1Description: Manufacturer URL; ComponentLink1URL: http://www.ti.com/; ComponentLink2Description: Datasheet; ComponentLink2URL: http://www.ti.com/general/docs/lit/getliterature.tsp?genericPartNumber=TPS72625&fileType=pdf; ComponentLink3Description: Package Specification; ComponentLink3URL: http://www.ti.com/litv/pdf/mpds098c
footprint TI-DCQ6_N (SOT223, 6-Leads, Body 6.5x3.5mm, Pitch 1.27mm, IPC Medium Density)
footprint TI-DCQ6_L (SOT223, 6-Leads, Body 6.5x3.5mm, Pitch 1.27mm, IPC High Density)
footprint TI-DCQ6_M (SOT223, 6-Leads, Body 6.5x3.5mm, Pitch 1.27mm, IPC Low Density)
pins: 1 EN (in) "Enable input", 2 IN (power) "Input supply voltage", 3 GND (power) "Ground", 4 OUT (power) "Regulated output voltage", 5 ~{RESET} (oc) "This terminal is the R\E\S\E\T\ output. When used with a pull-up resistor, this open-drain output provides the active low R\E\S\E\T\ signal when the regulator output voltage drops more than 5% below its nominal output (See Datasheet)", 6 GND (power) "Exposed Thermal Tab"

## TPS72625DCQG4
designator U?
Single Output Any Cap LDO, 1 A, Fixed 2.5 V Output, 1.8 to 6 V Input, with Integrated SVS, 6-pin SOT-223 (DCQ), -40 to 125 degC, Green (RoHS & no Sb/Br); Manufacturer: Texas Instruments; PartNumber: TPS72625DCQG4; Accuracy(%): 2; Fixed Output Options(V): 2.5; Iout(Max)(A): 1; Iq(Typ)(mA): 0.07; SubFamily: Single Channel LDO; Vdo(Typ)(mV): 170; Vin(Max)(V): 6; Vin(Min)(V): 1.8; DatasheetVersion: SLVS403H; PackageVersion: 4202109/D; PackageReference: DCQ6; PackageDescription: 6-Pin Plastic Small Outline, Body 3.5 x 6.5 mm, Pitch 1.27 mm; Supplier 1: Digi-Key; Supplier Part Number 1: TPS72625DCQG4-ND; Supplier 2: Mouser; Supplier Part Number 2: 595-TPS72625DCQG4; Eco-Plan: Green (RoHS & no Sb/Br); Vout Adj(Max)(V): 2.5; Vout Adj(Min)(V): 2.5; Mounting Technology: Surface Mount; ComponentLink1Description: Manufacturer URL; ComponentLink1URL: http://www.ti.com/; ComponentLink2Description: Datasheet; ComponentLink2URL: http://www.ti.com/general/docs/lit/getliterature.tsp?genericPartNumber=TPS72625&fileType=pdf; ComponentLink3Description: Package Specification; ComponentLink3URL: http://www.ti.com/litv/pdf/mpds098c
footprint TI-DCQ6_N (SOT223, 6-Leads, Body 6.5x3.5mm, Pitch 1.27mm, IPC Medium Density)
footprint TI-DCQ6_L (SOT223, 6-Leads, Body 6.5x3.5mm, Pitch 1.27mm, IPC High Density)
footprint TI-DCQ6_M (SOT223, 6-Leads, Body 6.5x3.5mm, Pitch 1.27mm, IPC Low Density)
pins: 1 EN (in) "Enable input", 2 IN (power) "Input supply voltage", 3 GND (power) "Ground", 4 OUT (power) "Regulated output voltage", 5 ~{RESET} (oc) "This terminal is the R\E\S\E\T\ output. When used with a pull-up resistor, this open-drain output provides the active low R\E\S\E\T\ signal when the regulator output voltage drops more than 5% below its nominal output (See Datasheet)", 6 GND (power) "Exposed Thermal Tab"

## TPS72625DCQR
designator U?
Single Output Any Cap LDO, 1 A, Fixed 2.5 V Output, 1.8 to 6 V Input, with Integrated SVS, 6-pin SOT-223 (DCQ), -40 to 125 degC, Green (RoHS & no Sb/Br); Manufacturer: Texas Instruments; PartNumber: TPS72625DCQR; Accuracy(%): 2; Fixed Output Options(V): 2.5; Iout(Max)(A): 1; Iq(Typ)(mA): 0.07; SubFamily: Single Channel LDO; Vdo(Typ)(mV): 170; Vin(Max)(V): 6; Vin(Min)(V): 1.8; DatasheetVersion: SLVS403H; PackageVersion: 4202109/D; PackageReference: DCQ6; PackageDescription: 6-Pin Plastic Small Outline, Body 3.5 x 6.5 mm, Pitch 1.27 mm; Supplier 1: Digi-Key; Supplier Part Number 1: 296-12960-2-ND; Supplier 2: Digi-Key; Supplier Part Number 2: 296-12960-1-ND; Supplier 3: Digi-Key; Supplier Part Number 3: 296-12960-6-ND; Supplier 4: Newark; Supplier Part Number 4: 77C0863; Supplier 5: Mouser; Supplier Part Number 5: 595-TPS72625DCQR; Eco-Plan: Green (RoHS & no Sb/Br); Vout Adj(Max)(V): 2.5; Vout Adj(Min)(V): 2.5; Mounting Technology: Surface Mount; ComponentLink1Description: Manufacturer URL; ComponentLink1URL: http://www.ti.com/; ComponentLink2Description: Datasheet; ComponentLink2URL: http://www.ti.com/general/docs/lit/getliterature.tsp?genericPartNumber=TPS72625&fileType=pdf; ComponentLink3Description: Package Specification; ComponentLink3URL: http://www.ti.com/litv/pdf/mpds098c
footprint TI-DCQ6_N (SOT223, 6-Leads, Body 6.5x3.5mm, Pitch 1.27mm, IPC Medium Density)
footprint TI-DCQ6_L (SOT223, 6-Leads, Body 6.5x3.5mm, Pitch 1.27mm, IPC High Density)
footprint TI-DCQ6_M (SOT223, 6-Leads, Body 6.5x3.5mm, Pitch 1.27mm, IPC Low Density)
pins: 1 EN (in) "Enable input", 2 IN (power) "Input supply voltage", 3 GND (power) "Ground", 4 OUT (power) "Regulated output voltage", 5 ~{RESET} (oc) "This terminal is the R\E\S\E\T\ output. When used with a pull-up resistor, this open-drain output provides the active low R\E\S\E\T\ signal when the regulator output voltage drops more than 5% below its nominal output (See Datasheet)", 6 GND (power) "Exposed Thermal Tab"

## TPS72625DCQRG4
designator U?
Single Output Any Cap LDO, 1 A, Fixed 2.5 V Output, 1.8 to 6 V Input, with Integrated SVS, 6-pin SOT-223 (DCQ), -40 to 125 degC, Green (RoHS & no Sb/Br); Manufacturer: Texas Instruments; PartNumber: TPS72625DCQRG4; Accuracy(%): 2; Fixed Output Options(V): 2.5; Iout(Max)(A): 1; Iq(Typ)(mA): 0.07; SubFamily: Single Channel LDO; Vdo(Typ)(mV): 170; Vin(Max)(V): 6; Vin(Min)(V): 1.8; DatasheetVersion: SLVS403H; PackageVersion: 4202109/D; PackageReference: DCQ6; PackageDescription: 6-Pin Plastic Small Outline, Body 3.5 x 6.5 mm, Pitch 1.27 mm; Supplier 1: Digi-Key; Supplier Part Number 1: TPS72625DCQRG4-ND; Supplier 2: Mouser; Supplier Part Number 2: 595-TPS72625DCQRG4; Eco-Plan: Green (RoHS & no Sb/Br); Vout Adj(Max)(V): 2.5; Vout Adj(Min)(V): 2.5; Mounting Technology: Surface Mount; ComponentLink1Description: Manufacturer URL; ComponentLink1URL: http://www.ti.com/; ComponentLink2Description: Datasheet; ComponentLink2URL: http://www.ti.com/general/docs/lit/getliterature.tsp?genericPartNumber=TPS72625&fileType=pdf; ComponentLink3Description: Package Specification; ComponentLink3URL: http://www.ti.com/litv/pdf/mpds098c
footprint TI-DCQ6_N (SOT223, 6-Leads, Body 6.5x3.5mm, Pitch 1.27mm, IPC Medium Density)
footprint TI-DCQ6_L (SOT223, 6-Leads, Body 6.5x3.5mm, Pitch 1.27mm, IPC High Density)
footprint TI-DCQ6_M (SOT223, 6-Leads, Body 6.5x3.5mm, Pitch 1.27mm, IPC Low Density)
pins: 1 EN (in) "Enable input", 2 IN (power) "Input supply voltage", 3 GND (power) "Ground", 4 OUT (power) "Regulated output voltage", 5 ~{RESET} (oc) "This terminal is the R\E\S\E\T\ output. When used with a pull-up resistor, this open-drain output provides the active low R\E\S\E\T\ signal when the regulator output voltage drops more than 5% below its nominal output (See Datasheet)", 6 GND (power) "Exposed Thermal Tab"

## TPS72625KTTR
designator U?
Single Output Any Cap LDO, 1 A, Fixed 2.5 V Output, 1.8 to 6 V Input, with Integrated SVS, 5-pin DDPAK (KTT), -40 to 125 degC, Green (RoHS & no Sb/Br); Manufacturer: Texas Instruments; PartNumber: TPS72625KTTR; Accuracy(%): 2; Fixed Output Options(V): 2.5; Iout(Max)(A): 1; Iq(Typ)(mA): 0.07; SubFamily: Single Channel LDO; Vdo(Typ)(mV): 170; Vin(Max)(V): 6; Vin(Min)(V): 1.8; DatasheetVersion: SLVS403H; PackageVersion: 4200577-3/F; PackageReference: KTT5; PackageDescription: 3-Pin Plastic Flange Mount, Body 10.16 x 10.34 mm, Pitch 1.7 mm; Supplier 1: Digi-Key; Supplier Part Number 1: TPS72625KTTR-ND; Supplier 2: Mouser; Supplier Part Number 2: 595-TPS72625KTTR; Eco-Plan: Green (RoHS & no Sb/Br); Vout Adj(Max)(V): 2.5; Vout Adj(Min)(V): 2.5; Mounting Technology: Surface Mount; Code_JEDEC: TO-263; ComponentLink1Description: Manufacturer URL; ComponentLink1URL: http://www.ti.com/; ComponentLink2Description: Datasheet; ComponentLink2URL: http://www.ti.com/general/docs/lit/getliterature.tsp?genericPartNumber=TPS72625&fileType=pdf; ComponentLink3Description: Package Specification; ComponentLink3URL: http://www.ti.com/litv/pdf/mpsf007e
footprint TI-KTT5_N (DPAK, 5-Leads, Body 10.16x8.925mm, Pitch 1.7mm, IPC Medium Density)
footprint TI-KTT5_L (DPAK, 5-Leads, Body 10.16x8.925mm, Pitch 1.7mm, IPC High Density)
footprint TI-KTT5_M (DPAK, 5-Leads, Body 10.16x8.925mm, Pitch 1.7mm, IPC Low Density)
pins: 1 EN (in) "Enable input", 2 IN (power) "Input supply voltage", 3 GND (power) "Ground", 4 OUT (power) "Regulated output voltage", 5 ~{RESET} (oc) "This terminal is the R\E\S\E\T\ output. When used with a pull-up resistor, this open-drain output provides the active low R\E\S\E\T\ signal when the regulator output voltage drops more than 5% below its nominal output (See Datasheet)", 6 GND (power) "Exposed Thermal Tab"

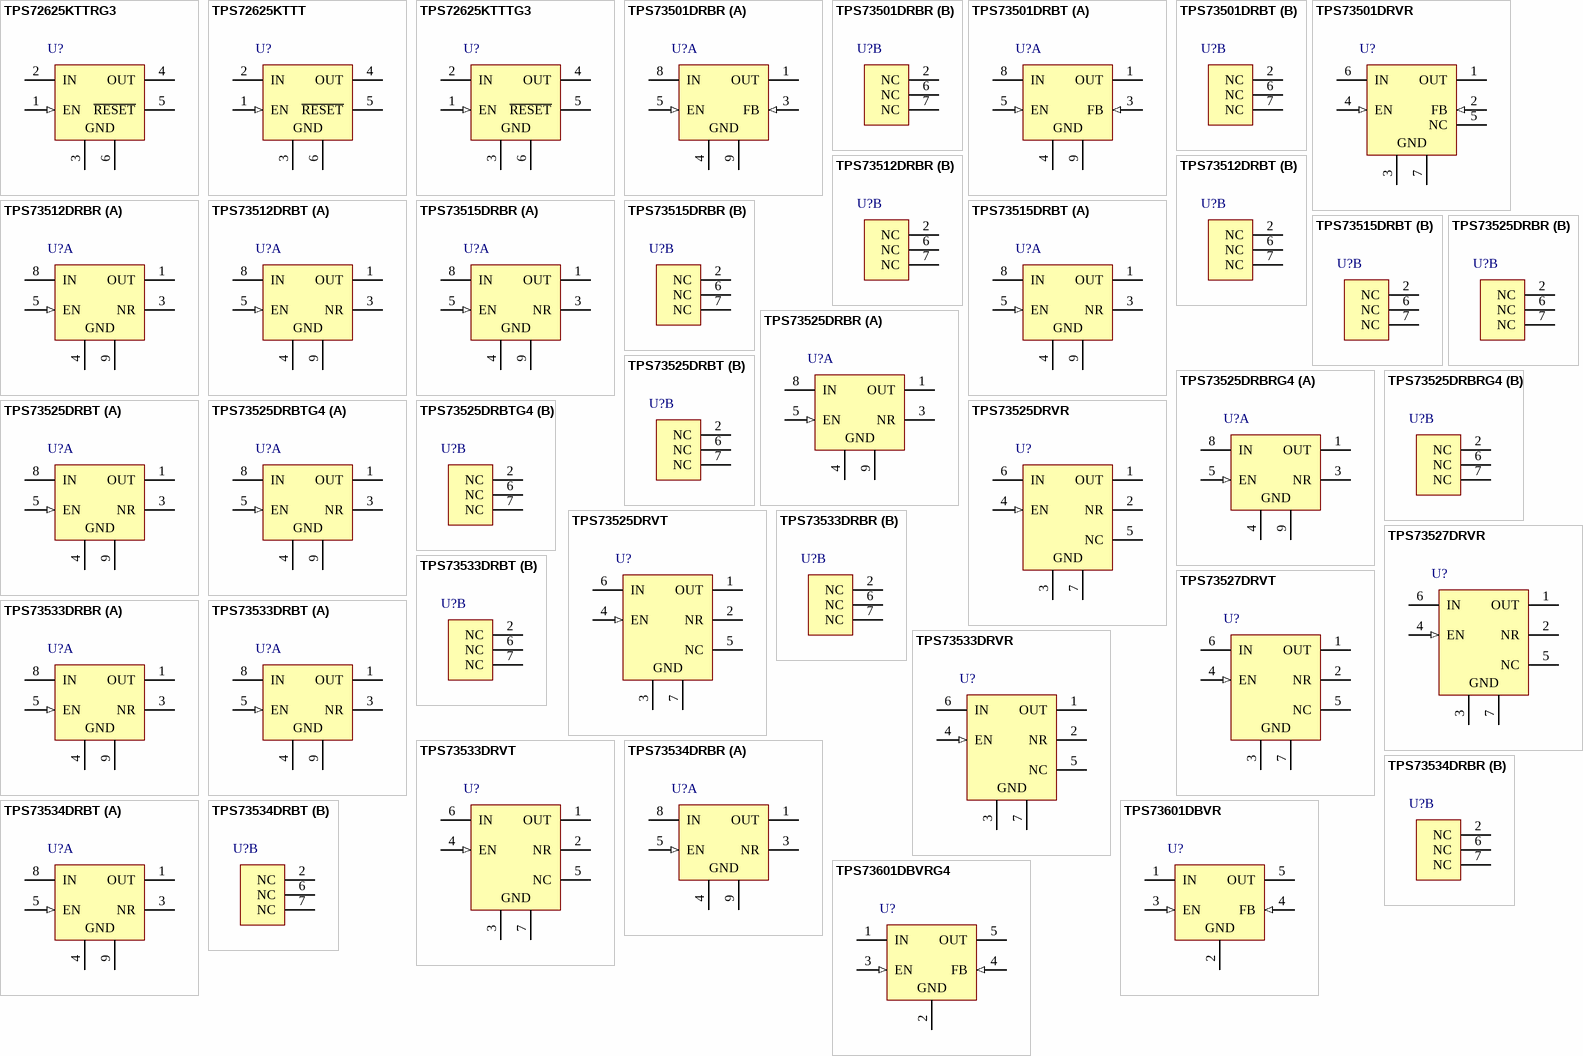
[diagram p11: symbols TPS72625KTTRG3 to TPS73601DBVRG4]

## TPS72625KTTRG3
designator U?
Single Output Any Cap LDO, 1 A, Fixed 2.5 V Output, 1.8 to 6 V Input, with Integrated SVS, 5-pin DDPAK (KTT), -40 to 125 degC, Green (RoHS & no Sb/Br); Manufacturer: Texas Instruments; PartNumber: TPS72625KTTRG3; Accuracy(%): 2; Fixed Output Options(V): 2.5; Iout(Max)(A): 1; Iq(Typ)(mA): 0.07; SubFamily: Single Channel LDO; Vdo(Typ)(mV): 170; Vin(Max)(V): 6; Vin(Min)(V): 1.8; DatasheetVersion: SLVS403H; PackageVersion: 4200577-3/F; PackageReference: KTT5; PackageDescription: 3-Pin Plastic Flange Mount, Body 10.16 x 10.34 mm, Pitch 1.7 mm; Supplier 1: Digi-Key; Supplier Part Number 1: TPS72625KTTRG3-ND; Supplier 2: Mouser; Supplier Part Number 2: 595-TPS72625KTTRG3; Eco-Plan: Green (RoHS & no Sb/Br); Vout Adj(Max)(V): 2.5; Vout Adj(Min)(V): 2.5; Mounting Technology: Surface Mount; Code_JEDEC: TO-263; ComponentLink1Description: Manufacturer URL; ComponentLink1URL: http://www.ti.com/; ComponentLink2Description: Datasheet; ComponentLink2URL: http://www.ti.com/general/docs/lit/getliterature.tsp?genericPartNumber=TPS72625&fileType=pdf; ComponentLink3Description: Package Specification; ComponentLink3URL: http://www.ti.com/litv/pdf/mpsf007e
footprint TI-KTT5_N (DPAK, 5-Leads, Body 10.16x8.925mm, Pitch 1.7mm, IPC Medium Density)
footprint TI-KTT5_L (DPAK, 5-Leads, Body 10.16x8.925mm, Pitch 1.7mm, IPC High Density)
footprint TI-KTT5_M (DPAK, 5-Leads, Body 10.16x8.925mm, Pitch 1.7mm, IPC Low Density)
pins: 1 EN (in) "Enable input", 2 IN (power) "Input supply voltage", 3 GND (power) "Ground", 4 OUT (power) "Regulated output voltage", 5 ~{RESET} (oc) "This terminal is the R\E\S\E\T\ output. When used with a pull-up resistor, this open-drain output provides the active low R\E\S\E\T\ signal when the regulator output voltage drops more than 5% below its nominal output (See Datasheet)", 6 GND (power) "Exposed Thermal Tab"

## TPS72625KTTT
designator U?
Single Output Any Cap LDO, 1 A, Fixed 2.5 V Output, 1.8 to 6 V Input, with Integrated SVS, 5-pin DDPAK (KTT), -40 to 125 degC, Green (RoHS & no Sb/Br); Manufacturer: Texas Instruments; PartNumber: TPS72625KTTT; Accuracy(%): 2; Fixed Output Options(V): 2.5; Iout(Max)(A): 1; Iq(Typ)(mA): 0.07; SubFamily: Single Channel LDO; Vdo(Typ)(mV): 170; Vin(Max)(V): 6; Vin(Min)(V): 1.8; DatasheetVersion: SLVS403H; PackageVersion: 4200577-3/F; PackageReference: KTT5; PackageDescription: 3-Pin Plastic Flange Mount, Body 10.16 x 10.34 mm, Pitch 1.7 mm; Supplier 1: Digi-Key; Supplier Part Number 1: 296-13754-2-ND; Supplier 2: Digi-Key; Supplier Part Number 2: 296-13754-1-ND; Supplier 3: Digi-Key; Supplier Part Number 3: 296-13754-6-ND; Supplier 4: Mouser; Supplier Part Number 4: 595-TPS72625KTTT; Eco-Plan: Green (RoHS & no Sb/Br); Vout Adj(Max)(V): 2.5; Vout Adj(Min)(V): 2.5; Mounting Technology: Surface Mount; Code_JEDEC: TO-263; ComponentLink1Description: Manufacturer URL; ComponentLink1URL: http://www.ti.com/; ComponentLink2Description: Datasheet; ComponentLink2URL: http://www.ti.com/general/docs/lit/getliterature.tsp?genericPartNumber=TPS72625&fileType=pdf; ComponentLink3Description: Package Specification; ComponentLink3URL: http://www.ti.com/litv/pdf/mpsf007e
footprint TI-KTT5_N (DPAK, 5-Leads, Body 10.16x8.925mm, Pitch 1.7mm, IPC Medium Density)
footprint TI-KTT5_L (DPAK, 5-Leads, Body 10.16x8.925mm, Pitch 1.7mm, IPC High Density)
footprint TI-KTT5_M (DPAK, 5-Leads, Body 10.16x8.925mm, Pitch 1.7mm, IPC Low Density)
pins: 1 EN (in) "Enable input", 2 IN (power) "Input supply voltage", 3 GND (power) "Ground", 4 OUT (power) "Regulated output voltage", 5 ~{RESET} (oc) "This terminal is the R\E\S\E\T\ output. When used with a pull-up resistor, this open-drain output provides the active low R\E\S\E\T\ signal when the regulator output voltage drops more than 5% below its nominal output (See Datasheet)", 6 GND (power) "Exposed Thermal Tab"